# EAGLE library part B10B-XH-A(LF)(SN) (library RoboRacing_STM)
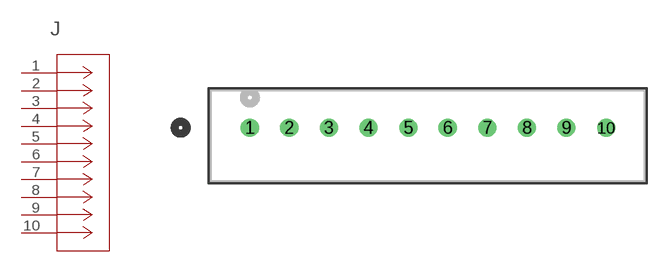
[diagram p4: symbol with the pads of CONN10_A(LF)(SN)_JST; footprint CONN10_A(LF)(SN)_JST]

Designator prefix J

## B10B-XH-A(LF)(SN) (COPYRIGHT: Copyright (C) 2022 Ultra Librarian. All rights reserved.; MANUFACTURER_PART_NUMBER: B10B-XH-A(LF)(SN); MFR_NAME: JST)  [CONN10_A(LF)(SN)_JST]
1  1  pas
2  2  pas
3  3  pas
4  4  pas
5  5  pas
6  6  pas
7  7  pas
8  8  pas
9  9  pas
10  10  pas

## Footprint CONN10_A(LF)(SN)_JST (pad centres in mm)
drill 0.635 pad 1.143: 1 0,0; 2 2.489,0; 3 5.004,0; 4 7.493,0; 5 10.008,0; 6 12.497,0; 7 15.011,0; 8 17.501,0; 9 19.99,0; 10 22.504,0